# EAGLE library part DRV8825 (library DRV8825)
Texas Instruments 2.25A Stepper Motor Driver
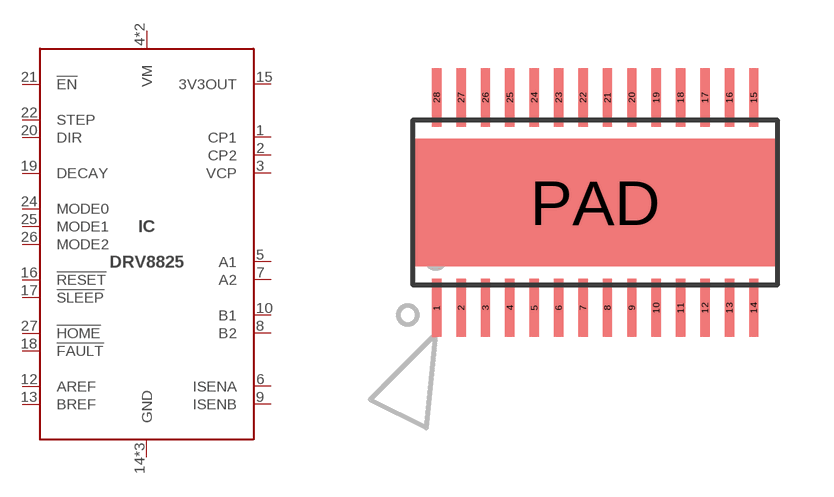
[diagram p0: symbol with the pads of PDSO-28; footprint PDSO-28]

Designator prefix IC

## DRV8825PWP  [PDSO-28]
1  CP1
2  CP2
3  VCP
4  VM  pwr
5  A1  out
6  ISENA
7  A2  out
8  B2  out
9  ISENB
10  B1  out
11  VM  pwr
12  AREF  in
13  BREF  in
14  GND  pwr
15  3V3OUT
16  !RESET  in
17  !SLEEP  in
18  !FAULT  oc
19  DECAY  in
20  DIR  in
21  !EN  in
22  STEP  in
24  MODE0  in
25  MODE1  in
26  MODE2  in
27  !HOME  oc
28  GND  pwr
PAD  GND  pwr

## Footprint PDSO-28 (pad centres in mm)
smd 0.25 x 1.55: 1 -4.225,-2.8; 2 -3.575,-2.8; 3 -2.925,-2.8; 4 -2.275,-2.8; 5 -1.625,-2.8; 6 -0.975,-2.8; 7 -0.325,-2.8; 8 0.325,-2.8; 9 0.975,-2.8; 10 1.625,-2.8; 11 2.275,-2.8; 12 2.925,-2.8; 13 3.575,-2.8; 14 4.225,-2.8; 15 4.225,2.8; 16 3.575,2.8; 17 2.925,2.8; 18 2.275,2.8; 19 1.625,2.8; 20 0.975,2.8; 21 0.325,2.8; 22 -0.325,2.8; 23 -0.975,2.8; 24 -1.625,2.8; 25 -2.275,2.8; 26 -2.925,2.8; 27 -3.575,2.8; 28 -4.225,2.8
smd 9.7 x 3.4: PAD 0,0